# Altium footprint library Custom.PcbLib: 446 footprints (part 4 of 28)
Each footprint in its own frame and in the unit in brackets; x right, y up, seen from the top. Pads: shape width x height; smd on the part's side, far side on the other; paste and mask are expansions set on the pad; w line width, h text height; cw(c..) or ccw(c..) is an arc to the next point about the centre after c.
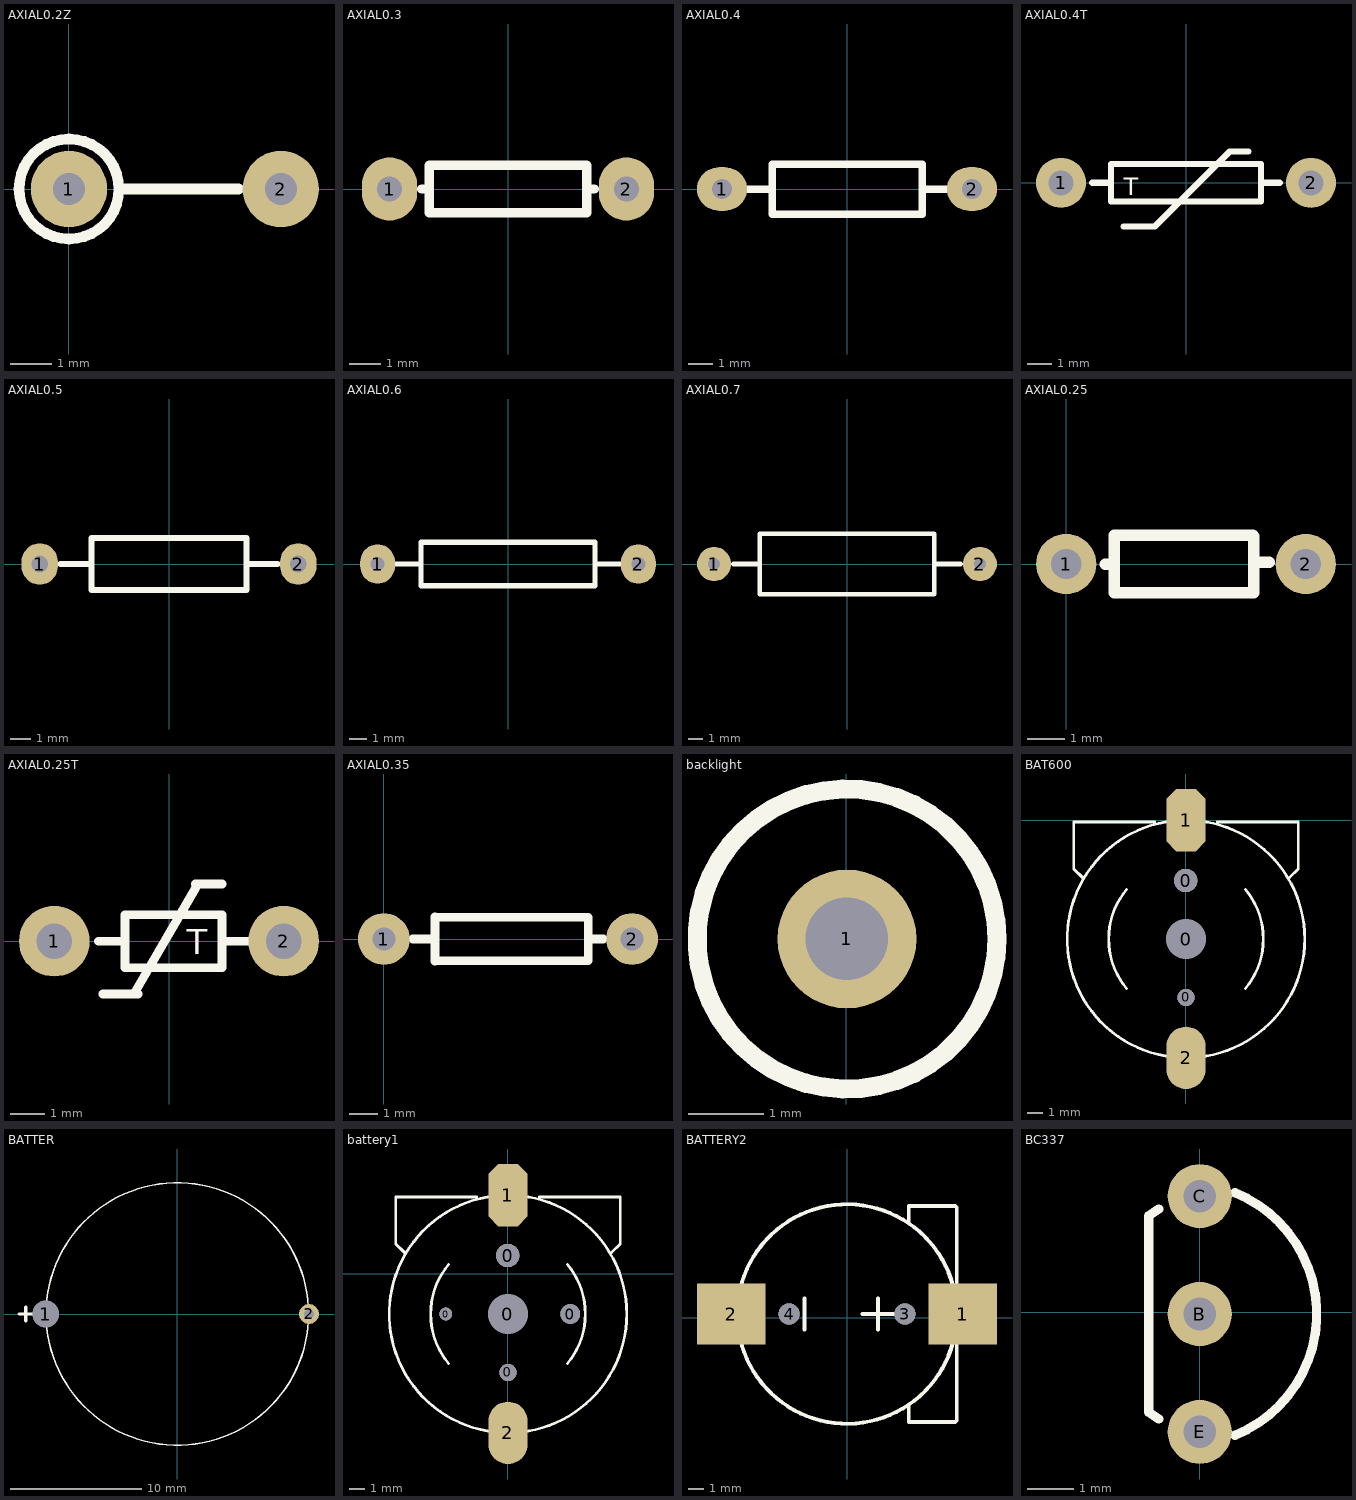
[diagram p3: the footprints below, top view; thin cyan lines are the x and y axes]

## AXIAL0.2Z [mil]
pads (2):
  round 72 hole 30: 1(0,0) 2(200,0)
Top Overlay:
  circle w10: c0,0 r47.17
  lines w10: 50,0 160,0

## AXIAL0.3 [mil]
pads (2):
  oval 70x80 hole 32: 1(-150,0) 2(150,0)
Top Overlay:
  lines w12: -109,0 -100,0 ; 109,0 100,0 ; 100,0 100,30 -100,30 -100,-30 100,-30 100,0

## AXIAL0.4 [mil]
pads (2):
  oval 80x70 hole 32: 1(-200,0) 2(200,0)
Top Overlay:
  lines w12: -160,0 -120,0 ; 120,0 160,0 ; -120,-40 -120,40 120,40 120,-40 -120,-40

## AXIAL0.4T [mil]
pads (2):
  round 80 hole 40: 1(-200,0) 2(200,0)
Top Overlay:
  lines w10: -150,0 -120,0 ; -100,-70 -50,-70 70,50 100,50 ; 120,0 150,0 ; -120,-30 120,-30 120,30 -120,30 -120,-30
  text "T" at -100,-20 h28

## AXIAL0.5 [mil]
pads (2):
  oval 70x80 hole 32: 1(-250,0) 2(250,0)
Top Overlay:
  lines w12: -210,0 -150,0 ; 150,0 210,0 ; -150,-50 -150,50 150,50 150,-50 -150,-50

## AXIAL0.6 [mil]
pads (2):
  oval 80x90 hole 32: 1(-300,0) 2(300,0)
Top Overlay:
  lines w12: -260,0 -200,0 ; 200,0 260,0 ; -200,-50 200,-50 200,50 -200,50 -200,-50

## AXIAL0.7 [mil]
pads (2):
  round 90 hole 32: 1(-350,0) 2(350,0)
Top Overlay:
  lines w12: -300,0 -230,0 ; 230,0 300,0 ; -230,-80 -230,80 230,80 230,-80 -230,-80

## AXIAL0.25 [mm]
pads (2):
  round 1.6 hole 0.8: 1(0,0) 2(6.35,0)
Top Overlay:
  lines w0.3: 1.27,-0.762 4.974,-0.762 4.974,0.738 4.95,0.762 1.27,0.762
  lines w0.305: 1.041,0 1.27,0 ; 1.27,-0.762 1.27,0.762 ; 5.148,0.042 5.377,0.042

## AXIAL0.25T [mil]
pads (2):
  round 80 hole 40: 1(-130,0) 2(130,0)
Top Overlay:
  lines w10: -80,0 -50,0 ; -75,-60 -35,-60 ; -40,-60 30,60 ; 30,65 60,65 ; 60,0 90,0 ; -50,-30 60,-30 60,30 -50,30 -50,-30
  text "T" at 20,-15 h28

## AXIAL0.35 [mm]
pads (2):
  round 1.8 hole 0.8: 1(0,0) 2(8.636,0)
Top Overlay:
  lines w0.3: 1.778,-0.762 1.778,0.762 7.112,0.762 7.112,0 7.112,-0.762 1.778,-0.762
  lines w0.305: 1.016,0 1.778,0 ; 1.778,-0.762 1.778,0.762 ; 7.112,0 7.62,0

## backlight [mm]
height 6.35
pads (1):
  round 1.85 hole 1.1: 1(0.009,2.5)
Top Overlay:
  circle w0.254: c0.009,2.5 r2

## BAT600 [mm]
pads (5):
  round 1.5 hole 1.5: 0(-0.014,-3.866)
  round 1.1 hole 1.1: 0(0.011,-11.366)
  round 2.54 hole 2.54: 0(0.011,-7.616)
  oct 2.5x4 smd: 1(0.011,0.004)
  oval 2.5x4 smd: 2(0.011,-15.236)
Top Overlay:
  lines w0.178: -6.614,-3.691 -7.189,-3.116 -7.189,-0.116 -1.989,-0.116 ; -3.802,-10.788 cw(c0.011,-7.616) -3.799,-4.441 ; -0.823,-15.19 cw(c0.011,-7.616) -0.823,-0.042 ; 0.844,-15.19 ccw(c0.011,-7.616) 7.631,-7.616 ccw(c0.011,-7.616) 0.844,-0.042 ; 2.011,-0.116 7.211,-0.116 7.211,-3.116 6.611,-3.716 ; 3.823,-10.788 ccw(c0.011,-7.616) 3.825,-4.447

## BATTER [mil]
pads (2):
  round 80 hole 80: 1(-395,0)
  round 60 hole 30: 2(395,0)
Top Overlay:
  circle w5: c0,0 r393.7
  lines w10: -475,0 -435,0 ; -455,-20 -455,20

## battery1 [mm]
pads (7):
  round 0.813 hole 0.813: 0(-3.979,-2.576)
  round 1.5 hole 1.5: 0(-0.016,1.174)
  round 1.1 hole 1.1: 0(0.009,-6.326)
  round 2.54 hole 2.54: 0(0.009,-2.576)
  round 1.27 hole 1.27: 0(3.997,-2.576)
  oct 2.5x4 smd: 1(0.009,5.044)
  oval 2.5x4 smd: 2(0.009,-10.196)
Top Overlay:
  lines w0.178: -6.616,1.349 -7.191,1.924 -7.191,4.924 -1.991,4.924 ; -3.803,-5.748 cw(c0.009,-2.576) -3.801,0.599 ; -0.824,-10.15 cw(c0.009,-2.576) -0.824,4.999 ; 0.842,-10.15 ccw(c0.009,-2.576) 7.629,-2.576 ccw(c0.009,-2.576) 0.842,4.999 ; 2.009,4.924 7.209,4.924 7.209,1.924 6.609,1.324 ; 3.821,-5.748 ccw(c0.009,-2.576) 3.824,0.594

## BATTERY2 [mil]
pads (4):
  rect 177.16x157.48 smd: 1(300,10) 2(-300,10)
  round 55.12 hole 55.12 unplated: 3(150,10) 4(-150,10)
Top Overlay:
  circle w10: c0,10 r284.25
  lines w10: -110,-30 -110,50 ; 40,10 120,10 ; 80,-30 80,50 ; 160,-230 160,-270 280,-270 284.25,-265.75 284.25,10 284.25,285.75 280,290 160,290 160,250

## BC337 [mm]
pads (3):
  round 1.38 hole 0.7: B(0,-0.04) C(0,2.5) E(0,-2.58)
Top Overlay:
  lines w0.2: -0.882,-2.303 -1.101,-2.157 -1.101,2.077 -0.882,2.223 ; 0.758,-2.65 ccw(c-0.296,-0.04) 0.758,2.57